# Altium schematic symbol library LED.Schlib: 1 symbol
Pins are listed as number, name and electrical type; pins without a type are passive.

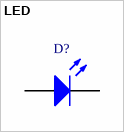
[diagram p0: symbol LED]

## LED
designator D?  (value not drawn)
pins: 1 A, 2 K